# Altium footprint library UFDFN-10.PcbLib: 1 footprints
Each footprint in its own frame and in the unit in brackets; x right, y up, seen from the top. Pads: shape width x height; smd on the part's side, far side on the other; paste and mask are expansions set on the pad; w line width, h text height; cw(c..) or ccw(c..) is an arc to the next point about the centre after c.
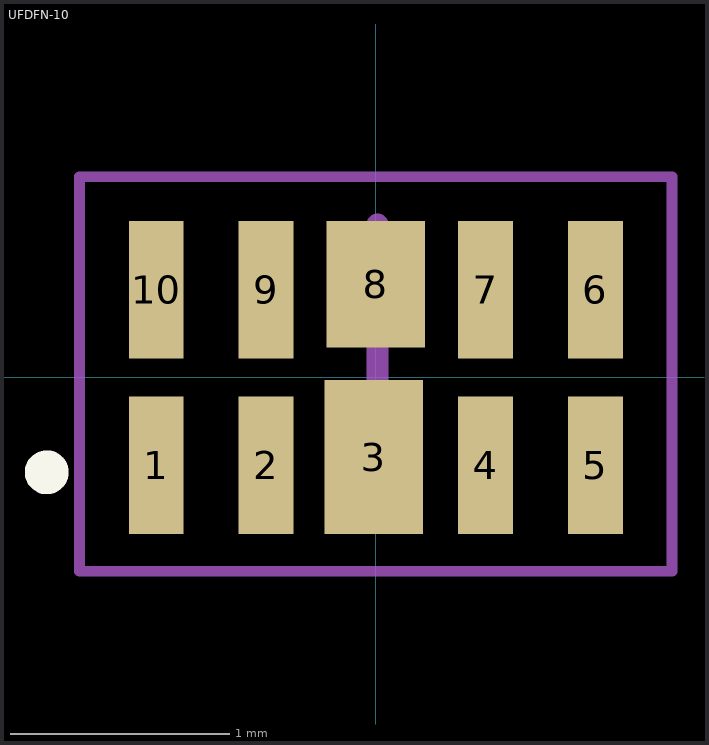
[diagram p0: the footprint, top view; thin cyan lines are the x and y axes]

## UFDFN-10 [mm] "QFN, 6-Leads, Body 1.60x1.60mm, Pitch 0.50mm, Thermal Pad 1.90x1.25mm, IPC High Density"
height 0.6
pads (10):
  rect 0.25x0.625 smd: 1(-1,-0.4) 2(-0.5,-0.4) 4(0.5,-0.4) 5(1,-0.4) 6(1,0.4) 7(0.5,0.4) 9(-0.5,0.4) 10(-1,0.4)
  rect 0.45x0.7 smd: 3(-0.009,-0.362)
  rect 0.45x0.575 smd: 8(0,0.425)
Top Overlay:
  circle w0.1: c-1.499,-0.432 r0.05
Mechanical 15:
  lines w0.05: -1.35,-0.883 1.35,-0.883 1.35,0.914 -1.35,0.914 -1.35,-0.883
  lines w0.1: 0.008,-0.304 0.008,0.696
3D body: height 0.58, standoff -0.05, extent -1.25,-0.52 1.25,0.52